# Altium footprint library Capacitor2012.PcbLib: 1 footprints
Each footprint in its own frame and in the unit in brackets; x right, y up, seen from the top. Pads: shape width x height; smd on the part's side, far side on the other; paste and mask are expansions set on the pad; w line width, h text height; cw(c..) or ccw(c..) is an arc to the next point about the centre after c.
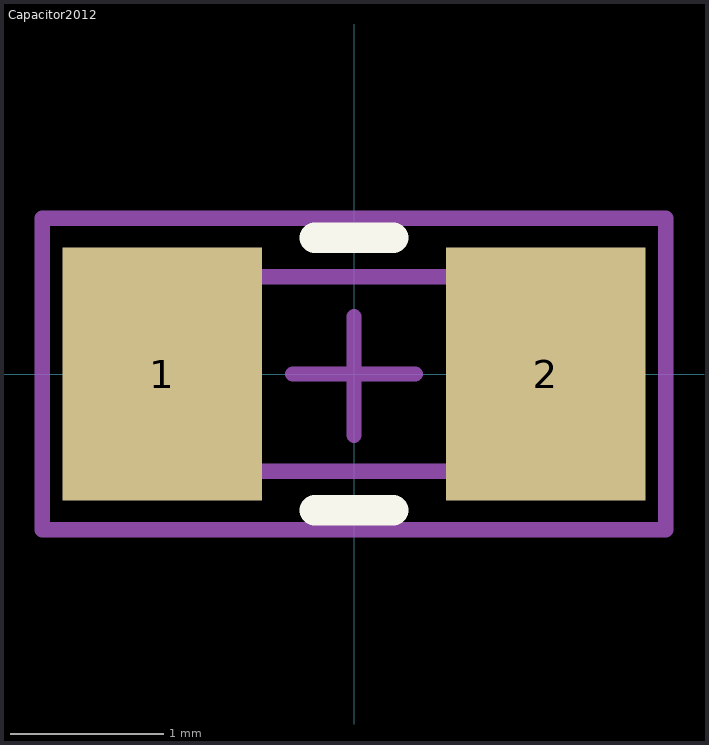
[diagram p0: the footprint, top view; thin cyan lines are the x and y axes]

## Capacitor2012 [mm]
pads (2):
  rect 1.3x1.65 smd: 1(-1.25,0) 2(1.25,0)
Top Overlay:
  lines w0.2: -0.254,-0.889 0.254,-0.889 ; -0.254,0.889 0.254,0.889
Mechanical 1:
  lines w0.1: -1.016,-0.635 1.016,-0.635 1.016,0.635 -1.016,0.635 -1.016,-0.635
Mechanical 15:
  lines w0.1: -0.4,0 0.4,0 ; 0,-0.4 0,0.375 ; -2.032,-1.016 2.032,-1.016 2.032,1.016 -2.032,1.016 -2.032,-1.016
3D body "CAPC-0805-T1.35-BN.stp": height 1.35, standoff 0, extent -1.05,-0.675 1.05,0.675